# Altium footprint library MountingHole.PcbLib: 167 footprints (part 6 of 11)
Each footprint in its own frame and in the unit in brackets; x right, y up, seen from the top. Pads: shape width x height; smd on the part's side, far side on the other; paste and mask are expansions set on the pad; w line width, h text height; cw(c..) or ccw(c..) is an arc to the next point about the centre after c.
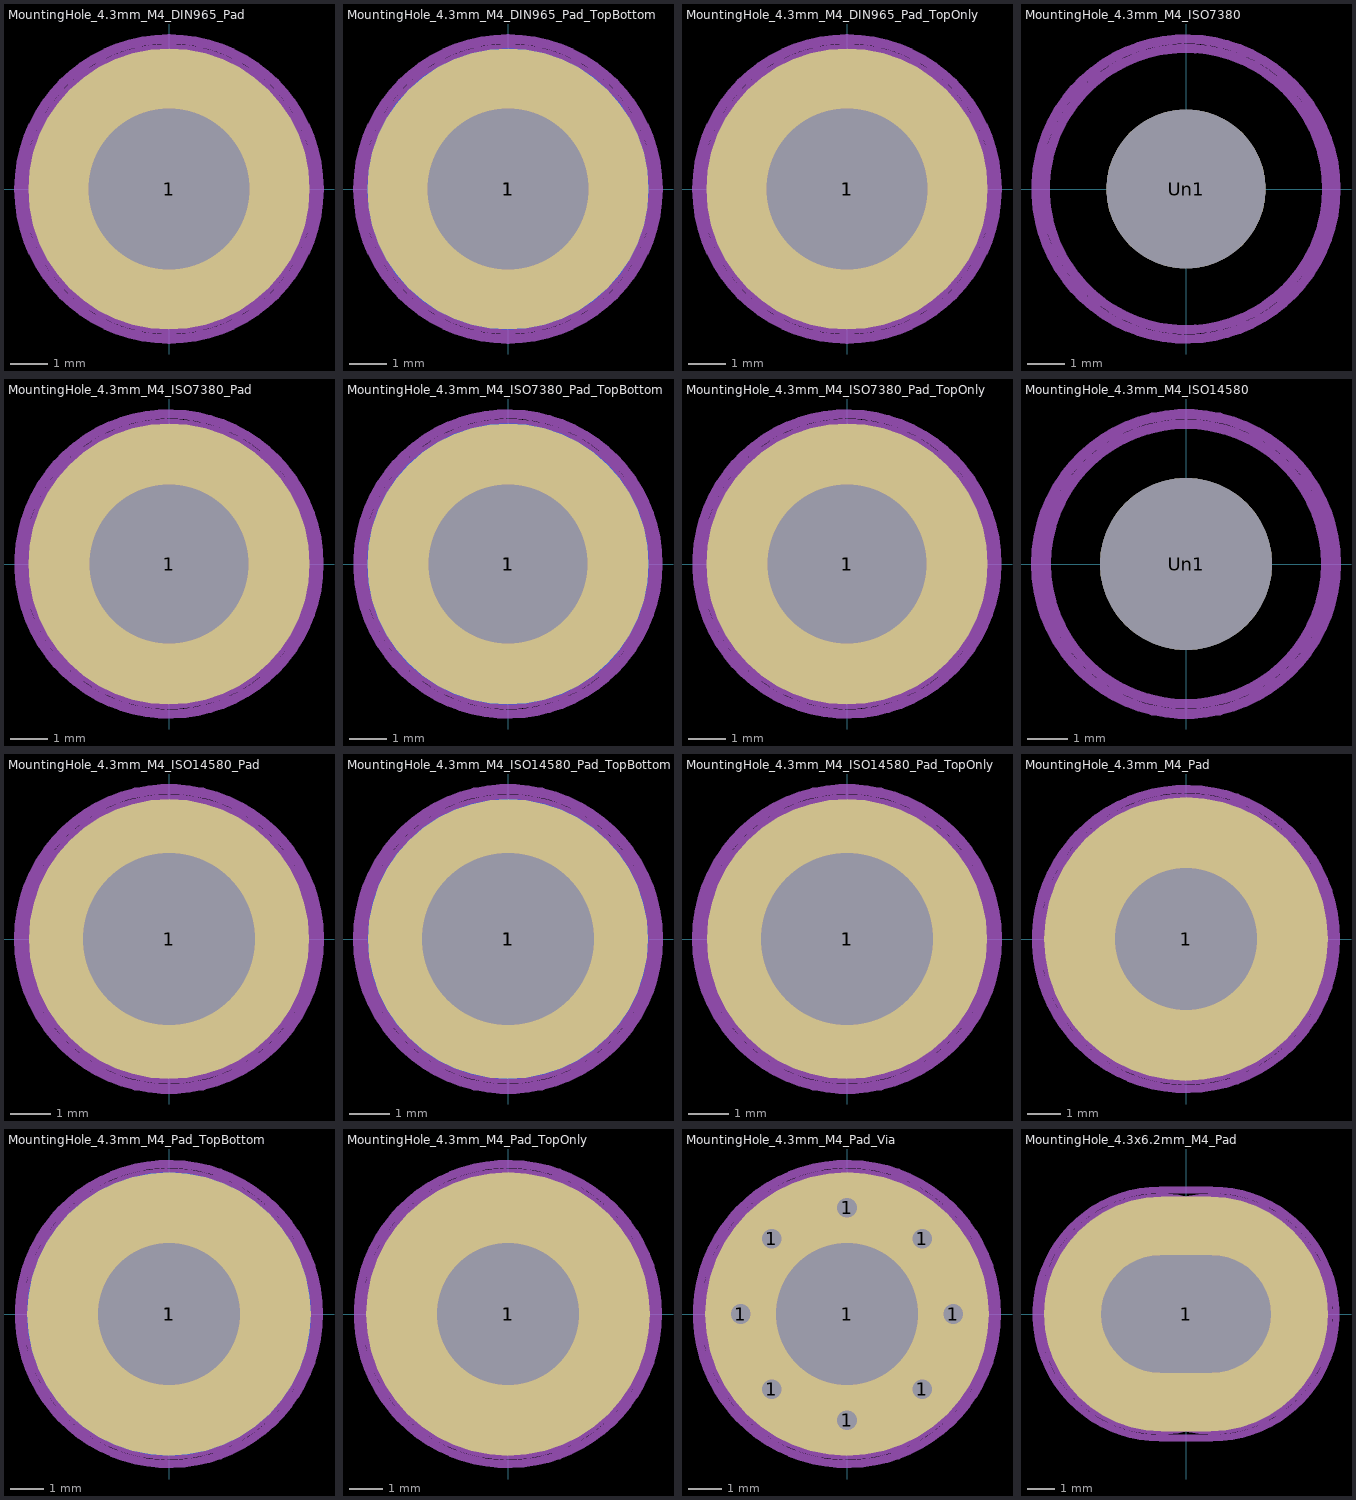
[diagram p5: the footprints below, top view; thin cyan lines are the x and y axes]

## MountingHole_4.3mm_M4_DIN965_Pad [mm]
pads (1):
  round 7.5 hole 4.3: 1(0,0)
Top Assembly:
  text "'.Designator'" at -4.047,-0.84 h1
Top Courtyard:
  circle w0.254: c0,0 r4
Top Designator:
  text ".Designator" at -7.652,-0.508 h1.52
Cmts.User:
  circle w0.254: c0,0 r3.75

## MountingHole_4.3mm_M4_DIN965_Pad_TopBottom [mm]
pads (3):
  round 4.7 hole 4.3: 1(0,0)
  round 7.5 smd: 1(0,0)
  round 7.5 smd far side: 1(0,0)
Top Assembly:
  text "'.Designator'" at -4.047,-0.84 h1
Top Courtyard:
  circle w0.254: c0,0 r4
Top Designator:
  text ".Designator" at -7.652,-0.508 h1.52
Cmts.User:
  circle w0.254: c0,0 r3.75

## MountingHole_4.3mm_M4_DIN965_Pad_TopOnly [mm]
pads (2):
  round 4.7 hole 4.3: 1(0,0)
  round 7.5 smd: 1(0,0)
Top Assembly:
  text "'.Designator'" at -4.047,-0.84 h1
Top Courtyard:
  circle w0.254: c0,0 r4
Top Designator:
  text ".Designator" at -7.652,-0.508 h1.52
Cmts.User:
  circle w0.254: c0,0 r3.75

## MountingHole_4.3mm_M4_ISO7380 [mm]
pads (1):
  round 4.3 hole 4.3: Un1(0,0)
Top Assembly:
  text "'.Designator'" at -4.047,-0.84 h1
Top Courtyard:
  circle w0.254: c0,0 r4.05
Top Designator:
  text ".Designator" at -7.627,-0.508 h1.52
Cmts.User:
  circle w0.254: c0,0 r3.8

## MountingHole_4.3mm_M4_ISO7380_Pad [mm]
pads (1):
  round 7.6 hole 4.3: 1(0,0)
Top Assembly:
  text "'.Designator'" at -4.047,-0.84 h1
Top Courtyard:
  circle w0.254: c0,0 r4.05
Top Designator:
  text ".Designator" at -7.627,-0.508 h1.52
Cmts.User:
  circle w0.254: c0,0 r3.8

## MountingHole_4.3mm_M4_ISO7380_Pad_TopBottom [mm]
pads (3):
  round 4.7 hole 4.3: 1(0,0)
  round 7.6 smd: 1(0,0)
  round 7.6 smd far side: 1(0,0)
Top Assembly:
  text "'.Designator'" at -4.047,-0.84 h1
Top Courtyard:
  circle w0.254: c0,0 r4.05
Top Designator:
  text ".Designator" at -7.627,-0.508 h1.52
Cmts.User:
  circle w0.254: c0,0 r3.8

## MountingHole_4.3mm_M4_ISO7380_Pad_TopOnly [mm]
pads (2):
  round 4.7 hole 4.3: 1(0,0)
  round 7.6 smd: 1(0,0)
Top Assembly:
  text "'.Designator'" at -4.047,-0.84 h1
Top Courtyard:
  circle w0.254: c0,0 r4.05
Top Designator:
  text ".Designator" at -7.627,-0.508 h1.52
Cmts.User:
  circle w0.254: c0,0 r3.8

## MountingHole_4.3mm_M4_ISO14580 [mm]
pads (1):
  round 4.3 hole 4.3: Un1(0,0)
Top Assembly:
  text "'.Designator'" at -4.047,-0.84 h1
Top Courtyard:
  circle w0.254: c0,0 r3.75
Top Designator:
  text ".Designator" at -7.768,-0.508 h1.52
Cmts.User:
  circle w0.254: c0,0 r3.5

## MountingHole_4.3mm_M4_ISO14580_Pad [mm]
pads (1):
  round 7 hole 4.3: 1(0,0)
Top Assembly:
  text "'.Designator'" at -4.047,-0.84 h1
Top Courtyard:
  circle w0.254: c0,0 r3.75
Top Designator:
  text ".Designator" at -7.768,-0.508 h1.52
Cmts.User:
  circle w0.254: c0,0 r3.5

## MountingHole_4.3mm_M4_ISO14580_Pad_TopBottom [mm]
pads (3):
  round 4.7 hole 4.3: 1(0,0)
  round 7 smd: 1(0,0)
  round 7 smd far side: 1(0,0)
Top Assembly:
  text "'.Designator'" at -4.047,-0.84 h1
Top Courtyard:
  circle w0.254: c0,0 r3.75
Top Designator:
  text ".Designator" at -7.768,-0.508 h1.52
Cmts.User:
  circle w0.254: c0,0 r3.5

## MountingHole_4.3mm_M4_ISO14580_Pad_TopOnly [mm]
pads (2):
  round 4.7 hole 4.3: 1(0,0)
  round 7 smd: 1(0,0)
Top Assembly:
  text "'.Designator'" at -4.047,-0.84 h1
Top Courtyard:
  circle w0.254: c0,0 r3.75
Top Designator:
  text ".Designator" at -7.768,-0.508 h1.52
Cmts.User:
  circle w0.254: c0,0 r3.5

## MountingHole_4.3mm_M4_Pad [mm]
pads (1):
  round 8.6 hole 4.3: 1(0,0)
Top Assembly:
  text "'.Designator'" at -4.047,-0.84 h1
Top Courtyard:
  circle w0.254: c0,0 r4.55
Top Designator:
  text ".Designator" at -7.618,-0.508 h1.52
Cmts.User:
  circle w0.254: c0,0 r4.3

## MountingHole_4.3mm_M4_Pad_TopBottom [mm]
pads (3):
  round 4.7 hole 4.3: 1(0,0)
  round 8.6 smd: 1(0,0)
  round 8.6 smd far side: 1(0,0)
Top Assembly:
  text "'.Designator'" at -4.047,-0.84 h1
Top Courtyard:
  circle w0.254: c0,0 r4.55
Top Designator:
  text ".Designator" at -7.618,-0.508 h1.52
Cmts.User:
  circle w0.254: c0,0 r4.3

## MountingHole_4.3mm_M4_Pad_TopOnly [mm]
pads (2):
  round 4.7 hole 4.3: 1(0,0)
  round 8.6 smd: 1(0,0)
Top Assembly:
  text "'.Designator'" at -4.047,-0.84 h1
Top Courtyard:
  circle w0.254: c0,0 r4.55
Top Designator:
  text ".Designator" at -7.618,-0.508 h1.52
Cmts.User:
  circle w0.254: c0,0 r4.3

## MountingHole_4.3mm_M4_Pad_Via [mm]
pads (9):
  round 0.9 hole 0.6: 1(-3.225,0) 1(-2.28,-2.28) 1(-2.28,2.28) 1(0,-3.225) 1(0,3.225) 1(2.28,-2.28) 1(2.28,2.28) 1(3.225,0)
  round 8.6 hole 4.3: 1(0,0)
Top Assembly:
  text "'.Designator'" at -4.047,-0.84 h1
Top Courtyard:
  circle w0.254: c0,0 r4.55
Top Designator:
  text ".Designator" at -7.618,-0.508 h1.52
Cmts.User:
  circle w0.254: c0,0 r4.3

## MountingHole_4.3x6.2mm_M4_Pad [mm]
pads (1):
  rrect100% 10.4x8.6 hole 4.3 slot 6.2 at 0 deg: 1(0,0)
Top Assembly:
  text "'.Designator'" at -4.037,-0.84 h1
Top Courtyard:
  lines w0.254: -0.95,-4.55 cw(c-0.95,0) -0.95,4.55 0.95,4.55 cw(c0.95,0) 0.95,-4.55 -0.95,-4.55
Top Designator:
  text ".Designator" at -7.618,-0.508 h1.52
Cmts.User:
  circle w0.254: c0.95,0 r4.3
  circle w0.254: c-0.95,0 r4.3